# Altium footprint library WSON_8.PcbLib: 1 footprints
Each footprint in its own frame and in the unit in brackets; x right, y up, seen from the top. Pads: shape width x height; smd on the part's side, far side on the other; paste and mask are expansions set on the pad; w line width, h text height; cw(c..) or ccw(c..) is an arc to the next point about the centre after c.
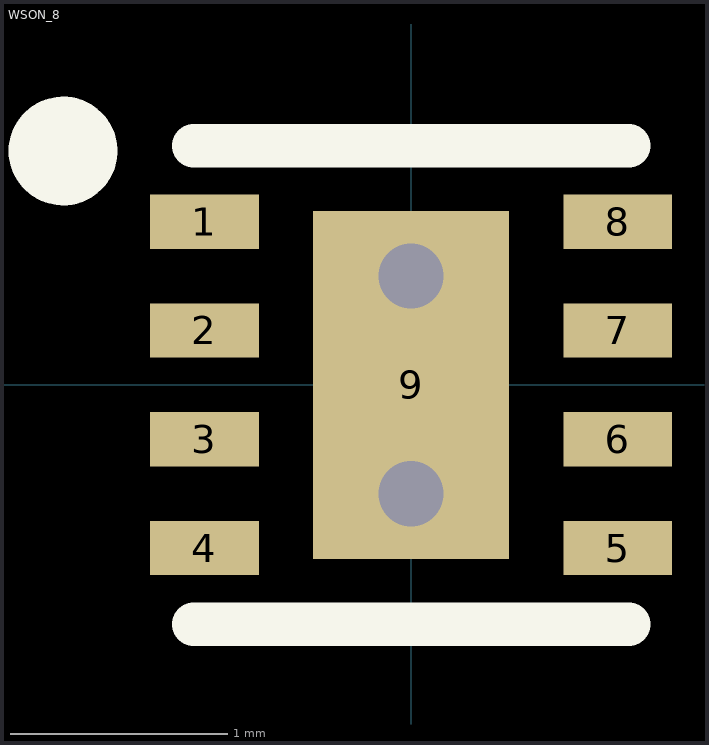
[diagram p0: the footprint, top view; thin cyan lines are the x and y axes]

## WSON_8 [mm]
pads (9):
  rect 0.5x0.25 smd mask+0.05: 1(-0.95,0.75) 2(-0.95,0.25) 3(-0.95,-0.25) 4(-0.95,-0.75) 5(0.95,-0.75) 6(0.95,-0.25) 7(0.95,0.25) 8(0.95,0.75)
  rect 0.9x1.6 smd mask+0.05: 9(0,0)
via 0,-0.5 diameter 0.6 hole 0.3
via 0,0.5 diameter 0.6 hole 0.3
Top Overlay:
  circle w0.25: c-1.6,1.075 r0.125
  lines w0.2: -1,-1.1 1,-1.1 ; -1,1.1 1,1.1
3D body: height 0.8, standoff 0, extent -1,-1 1,1